# Altium integrated library ASPI-8040S-100M-T.IntLib: 1 symbol
Pins are listed as number, name and electrical type; pins without a type are passive.

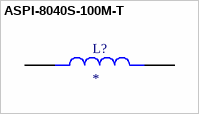
[diagram p0: symbol ASPI-8040S-100M-T]

## ASPI-8040S-100M-T
designator L?
10 ÂµH Shielded Drum Core, Wirewound Inductor 3.3 A 29mOhm Nonstandard; MF: Abracon LLC; MP: ASPI-8040S-100M-T; SnapEDA_Link: https://www.snapeda.com/parts/ASPI-8040S-100M-T/Abracon/view-part/?ref=snap; Package: Nonstandard Abracon LLC; Value: *; Check_prices: https://www.snapeda.com/parts/ASPI-8040S-100M-T/Abracon/view-part/?ref=eda
footprint IND_ASPI-8040S-100M-T
pins: 1, 2